# Altium schematic symbol library DM3AT-SF-PEJM5.SchLib: 1 symbol
Pins are listed as number, name and electrical type; pins without a type are passive.

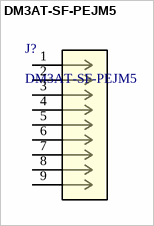
[diagram p0: symbol DM3AT-SF-PEJM5]

## DM3AT-SF-PEJM5
designator J?
Description; Manufacturer_Name: Hirose; Copyright: Copyright (C) 2026 Ultra Librarian. All rights reserved.; Manufacturer_Part_Number: DM3AT-SF-PEJM5; RefDes: RefDes; Type: Type
footprint CONN8_DM3AT-SF-PEJM5_HIR
pins: 1, 2, 3, 4, 5, 6, 7, 8, 9